# EAGLE library part ACS711EX (library POLOLU2453)
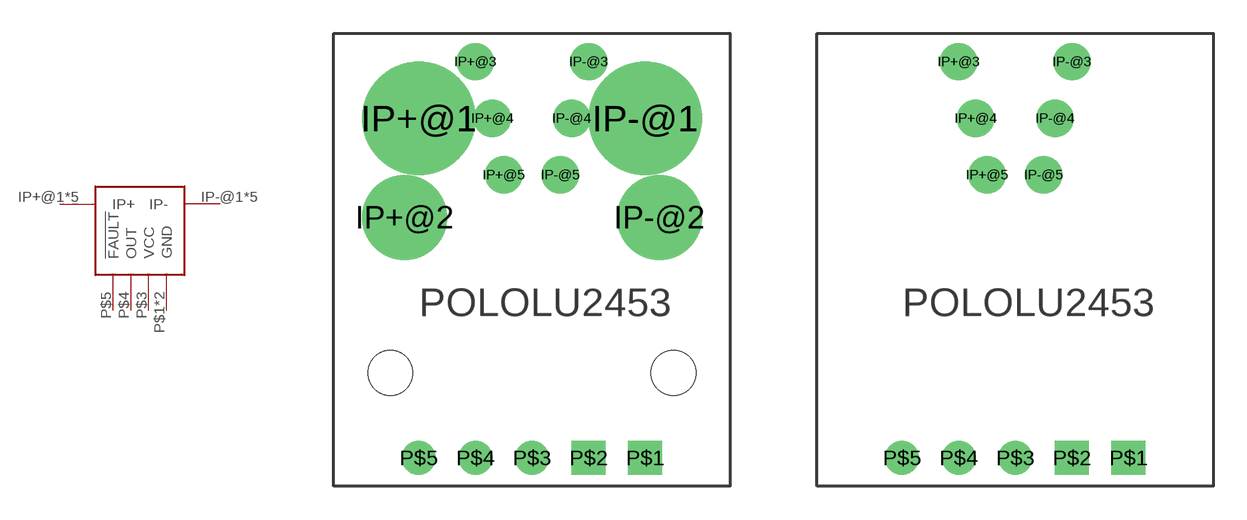
[diagram p0: symbol with the pads of POLOLU2453; footprints POLOLU2453, POLOLU2453_SMALL_HOLES]

Designator prefix -

## ACS711EX  [POLOLU2453]
IP+@1  IP+
IP+@2  IP+
IP+@3  IP+
IP+@4  IP+
IP+@5  IP+
IP-@1  IP-
IP-@2  IP-
IP-@3  IP-
IP-@4  IP-
IP-@5  IP-
P$1  GND
P$2  GND
P$3  VCC
P$4  OUT
P$5  !FAULT

## ACS711EXSH  [POLOLU2453_SMALL_HOLES]
IP+@3  IP+
IP+@4  IP+
IP+@5  IP+
IP-@3  IP-
IP-@4  IP-
IP-@5  IP-
P$1  GND
P$2  GND
P$3  VCC
P$4  OUT
P$5  !FAULT

## Footprint POLOLU2453 (pad centres in mm)
drill 3.2 pad 5.08: IP+@1 3.81,16.51; IP-@1 13.97,16.51
drill 2 pad 3.81: IP+@2 3.175,12.065; IP-@2 14.605,12.065
drill 0.9 pad 1.676: IP+@3 6.35,19.05; IP+@4 7.112,16.51; IP+@5 7.62,13.97; IP-@3 11.43,19.05; IP-@4 10.668,16.51; IP-@5 10.16,13.97
drill 1.016 square: P$1 13.97,1.27; P$2 11.43,1.27
drill 1.016: P$3 8.89,1.27; P$4 6.35,1.27; P$5 3.81,1.27
hole 2 at 2.54,5.08
hole 2 at 15.24,5.08

## Footprint POLOLU2453_SMALL_HOLES (pad centres in mm)
drill 0.9 pad 1.676: IP+@3 6.35,19.05; IP+@4 7.112,16.51; IP+@5 7.62,13.97; IP-@3 11.43,19.05; IP-@4 10.668,16.51; IP-@5 10.16,13.97
drill 1.016 square: P$1 13.97,1.27; P$2 11.43,1.27
drill 1.016: P$3 8.89,1.27; P$4 6.35,1.27; P$5 3.81,1.27